# Altium footprint library 4pin.PcbLib: 1 footprints
Each footprint in its own frame and in the unit in brackets; x right, y up, seen from the top. Pads: shape width x height; smd on the part's side, far side on the other; paste and mask are expansions set on the pad; w line width, h text height; cw(c..) or ccw(c..) is an arc to the next point about the centre after c.
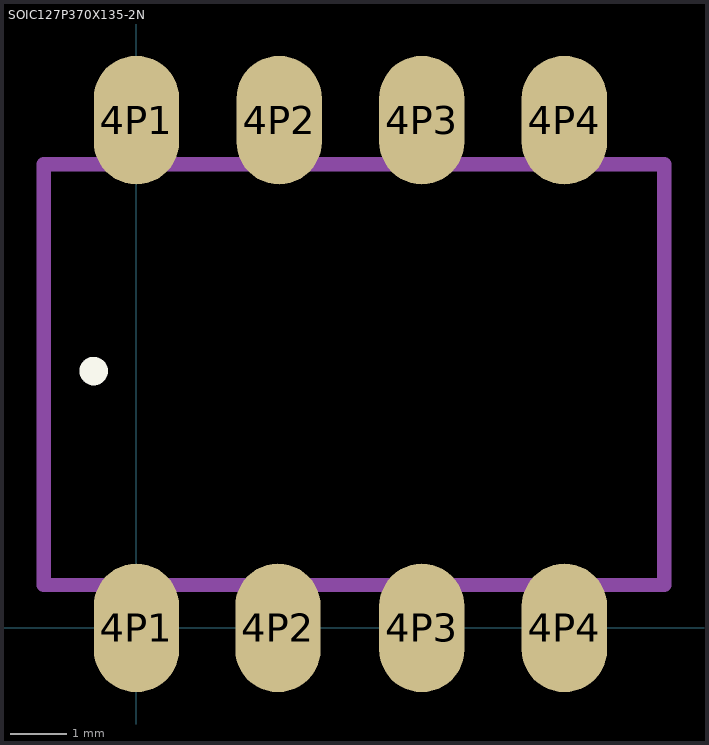
[diagram p0: the footprint, top view; thin cyan lines are the x and y axes]

## SOIC127P370X135-2N [mm] "SOIC, 2-Leads, Body 1.55x2.70mm, Pitch 1.27mm, IPC Medium Density"
height 1.35
pads (8):
  oval 1.52x2.29 smd: 4P1(0,0) 4P1(0,9.04) 4P2(2.52,0) 4P2(2.54,9.04) 4P3(5.08,0) 4P3(5.08,9.04) 4P4(7.62,0) 4P4(7.62,9.04)
Top Overlay:
  circle w0.254: c-0.762,4.572 r0.127
Mechanical 1:
  lines w0.254: -1.651,0.762 -1.651,8.255 9.398,8.255 9.398,0.762 -1.651,0.762